# EAGLE library part HDR-1X13 (library Digilent)
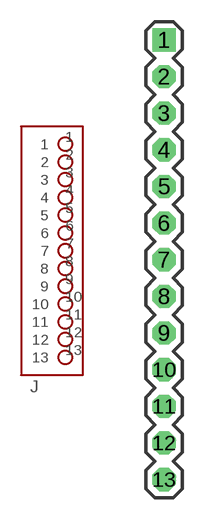
[diagram p11: symbol with the pads of HDR-1X13; footprint HDR-1X13]

Designator prefix J

## HDR-1X13  [HDR-1X13]
1  1  pas
2  2  pas
3  3  pas
4  4  pas
5  5  pas
6  6  pas
7  7  pas
8  8  pas
9  9  pas
10  10  pas
11  11  pas
12  12  pas
13  13  pas

## Footprint HDR-1X13 (pad centres in mm)
drill 1.067 square: 1 0,15.24
drill 1.067 octagon: 2 0,12.7; 3 0,10.16; 4 0,7.62; 5 0,5.08; 6 0,2.54; 7 0,0; 8 0,-2.54; 9 0,-5.08; 10 0,-7.62; 11 0,-10.16; 12 0,-12.7; 13 0,-15.24